# Altium schematic symbol library Libraries_2014_0618.SchLib: 81 symbols
Pins are listed as number, name and electrical type; pins without a type are passive.

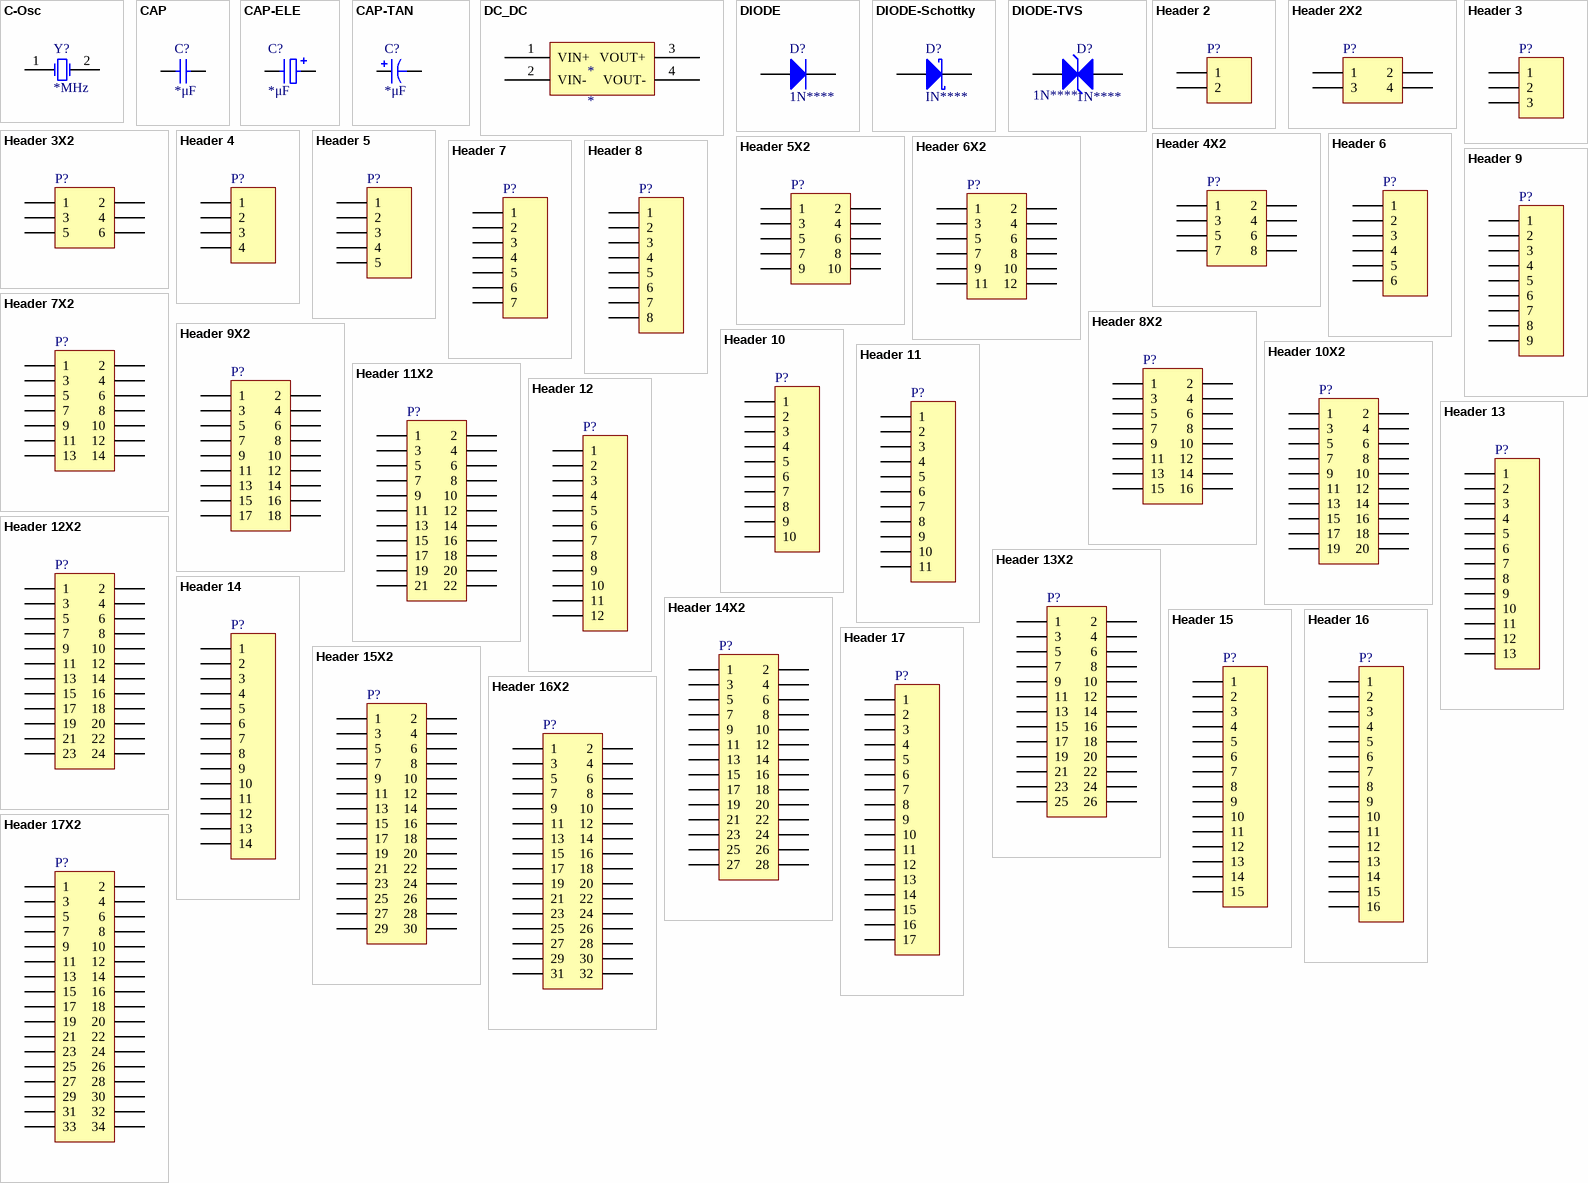
[diagram p0: symbols C-Osc to Header 17X2]

## C-Osc
designator Y?, comment *MHz
Crystal Oscillator; Published: 8-Jun-2000; LatestRevisionDate: 17-Jul-2002; LatestRevisionNote: Re-released for DXP Platform.; PackageReference: R38; Publisher: Altium Limited; PackageDescription: Crystal, Thru-Hole; 2 Leads; Body 3.1 x 8.2 mm (Dia.xH)
simulation model XTAL (Spice Subcircuit)
footprint UL94-V0 (Footprint not found)
pins: 1 OSC1, 2 OSC2

## CAP
designator C?, comment *μF
无极性电容; Published: 8-Jun-2000; LatestRevisionDate: 17-Jul-2002; LatestRevisionNote: Re-released for DXP Platform.; PackageReference: RAD-0.3; Publisher: Altium Limited; PackageDescription: Radial Cap, Thru-Hole; 2 Leads; 0.3 in Pin Spacing; Value: *μF
simulation model CAP (Capacitor)
signal-integrity model Cap
footprint CAP-MLCC-0603
footprint CAP-MLCC-0805
footprint CAP-MLCC-1206
pins: 1, 2

## CAP-ELE
designator C?, comment *μF
电解电容; Published: 8-Jun-2000; LatestRevisionDate: 17-Jul-2002; LatestRevisionNote: Re-released for DXP Platform.; PackageReference: RB7.6-15; Publisher: Altium Limited; PackageDescription: Polarized Capacitor (Radial); 2 Leads; Value: *μF
simulation model CAP (Capacitor)
signal-integrity model Cap Pol
pins: 1, 2
1 alternate drawing of the same symbol

## CAP-TAN
designator C?, comment *μF
钽电容; Published: 8-Jun-2000; LatestRevisionDate: 17-Jul-2002; LatestRevisionNote: Re-released for DXP Platform.; PackageReference: POLAR0.8; Publisher: Altium Limited; PackageDescription: Polarized Capacitor; 2 Leads; Value: *μF
simulation model CAP (Capacitor)
signal-integrity model Cap Pol
footprint CAP-TAN-3216/CAPA
footprint CAP-TAN-3528/CAPB
footprint CAP-TAN-6032/CAPC
pins: 1, 2
1 alternate drawing of the same symbol

## DC_DC
designator *
footprint DC_DC
pins: 1 VIN+, 2 VIN-, 3 VOUT+, 4 VOUT-

## DIODE
designator D?, comment 1N****
二极管; Published: 8-Jun-2000; LatestRevisionDate: 17-Jul-2002; LatestRevisionNote: Re-released for DXP Platform.; PackageVersion: Sep-1996; PackageReference: SMC; Publisher: Altium Limited; PackageDescription: DO-214-AB/SMC; 2 C-Bend Leads; Body 7.9 x 5.9 mm, inc. leads (LxW); Code_JEDEC: DO-214-AB; Value: 1N****
simulation model DIODE (Diode)
signal-integrity model Diode
pins: 1 A, 2 K

## DIODE-Schottky
designator D?, comment IN****
肖特基二极管; Value: 1N****; Published: 8-Jun-2000; LatestRevisionDate: 17-Jul-2002; LatestRevisionNote: Re-released for DXP Platform.; PackageReference: SMB; Publisher: Altium Limited; PackageDescription: DO-214-AA/SMB; 2 C-Bend Leads; Body 5.3 x 3.6 mm, inc. leads (LxW); Code_JEDEC: DO-214-AA
simulation model SKYDIODE (Diode)
signal-integrity model D Schottky
pins: 1 A, 2 K

## DIODE-TVS
designator D?, comment 1N****
双向稳压二极管; Published: 8-Jun-2000; LatestRevisionDate: 17-Jul-2002; LatestRevisionNote: Re-released for DXP Platform.; PackageReference: SMB; Publisher: Altium Limited; PackageDescription: DO-214-AA/SMB; 2 C-Bend Leads; Body 5.3 x 3.6 mm, inc. leads (LxW); Code_JEDEC: DO-214-AA; Value: 1N****
simulation model SKYDIODE (Diode)
signal-integrity model D Schottky
pins: 1 A, 2 K

## Header 2
designator P?  (value not drawn)
Header, 2-Pin; LatestRevisionDate: 17-Jul-2002; LatestRevisionNote: Re-released for DXP Platform.; Publisher: Altium Limited
signal-integrity model Connector
footprint SIP2
footprint PwrDock
pins: 1, 2

## Header 2X2
designator P?  (value not drawn)
Header, 2-Pin, Dual row; LatestRevisionDate: 17-Jul-2002; LatestRevisionNote: Re-released for DXP Platform.; Publisher: Altium Limited
signal-integrity model Connector
footprint HDR2X2 (Connector; Header; 2x2 Position)
footprint HDR2X2H (Connector; Header; 2x2 Position; Right Angle)
pins: 1, 2, 3, 4

## Header 3
designator P?  (value not drawn)
Header, 3-Pin; LatestRevisionDate: 17-Jul-2002; LatestRevisionNote: Re-released for DXP Platform.; Publisher: Altium Limited
signal-integrity model Connector
pins: 1, 2, 3

## Header 3X2
designator P?
Header, 3-Pin, Dual row; LatestRevisionDate: 17-Jul-2002; LatestRevisionNote: Re-released for DXP Platform.; Publisher: Altium Limited
signal-integrity model Connector
pins: 1, 2, 3, 4, 5, 6

## Header 4
designator P?
Header, 4-Pin; LatestRevisionDate: 17-Jul-2002; LatestRevisionNote: Re-released for DXP Platform.; Publisher: Altium Limited
signal-integrity model Connector
pins: 1, 2, 3, 4

## Header 4X2
designator P?
Header, 4-Pin, Dual row; LatestRevisionDate: 17-Jul-2002; LatestRevisionNote: Re-released for DXP Platform.; Publisher: Altium Limited
signal-integrity model Connector
pins: 1, 2, 3, 4, 5, 6, 7, 8

## Header 5
designator P?
Header, 5-Pin; LatestRevisionDate: 17-Jul-2002; LatestRevisionNote: Re-released for DXP Platform.; Publisher: Altium Limited
signal-integrity model Connector
pins: 1, 2, 3, 4, 5

## Header 5X2
designator P?
Header, 5-Pin, Dual row; LatestRevisionDate: 17-Jul-2002; LatestRevisionNote: Re-released for DXP Platform.; Publisher: Altium Limited
signal-integrity model Connector
pins: 1, 2, 3, 4, 5, 6, 7, 8, 9, 10

## Header 6
designator P?
Header, 6-Pin; LatestRevisionDate: 17-Jul-2002; LatestRevisionNote: Re-released for DXP Platform.; Publisher: Altium Limited
signal-integrity model Connector
pins: 1, 2, 3, 4, 5, 6

## Header 6X2
designator P?
Header, 6-Pin, Dual row; LatestRevisionDate: 17-Jul-2002; LatestRevisionNote: Re-released for DXP Platform.; Publisher: Altium Limited
signal-integrity model Connector
pins: 1, 2, 3, 4, 5, 6, 7, 8, 9, 10, 11, 12

## Header 7
designator P?
Header, 7-Pin; LatestRevisionDate: 17-Jul-2002; LatestRevisionNote: Re-released for DXP Platform.; Publisher: Altium Limited
signal-integrity model Connector
pins: 1, 2, 3, 4, 5, 6, 7

## Header 7X2
designator P?
Header, 7-Pin, Dual row; LatestRevisionDate: 17-Jul-2002; LatestRevisionNote: Re-released for DXP Platform.; Publisher: Altium Limited
signal-integrity model Connector
pins: 1, 2, 3, 4, 5, 6, 7, 8, 9, 10, 11, 12, 13, 14

## Header 8
designator P?
Header, 8-Pin; LatestRevisionDate: 17-Jul-2002; LatestRevisionNote: Re-released for DXP Platform.; Publisher: Altium Limited
signal-integrity model Connector
pins: 1, 2, 3, 4, 5, 6, 7, 8

## Header 8X2
designator P?
Header, 8-Pin, Dual row; LatestRevisionDate: 17-Jul-2002; LatestRevisionNote: Re-released for DXP Platform.; Publisher: Altium Limited
signal-integrity model Connector
pins: 1, 2, 3, 4, 5, 6, 7, 8, 9, 10, 11, 12, 13, 14, 15, 16

## Header 9
designator P?
Header, 9-Pin; LatestRevisionDate: 17-Jul-2002; LatestRevisionNote: Re-released for DXP Platform.; Publisher: Altium Limited
signal-integrity model Connector
pins: 1, 2, 3, 4, 5, 6, 7, 8, 9

## Header 9X2
designator P?
Header, 9-Pin, Dual row; LatestRevisionDate: 17-Jul-2002; LatestRevisionNote: Re-released for DXP Platform.; Publisher: Altium Limited
signal-integrity model Connector
pins: 1, 2, 3, 4, 5, 6, 7, 8, 9, 10, 11, 12, 13, 14, 15, 16, 17, 18

## Header 10
designator P?
Header, 10-Pin; LatestRevisionDate: 17-Jul-2002; LatestRevisionNote: Re-released for DXP Platform.; Publisher: Altium Limited
signal-integrity model Connector
pins: 1, 2, 3, 4, 5, 6, 7, 8, 9, 10

## Header 10X2
designator P?
Header, 10-Pin, Dual row; LatestRevisionDate: 17-Jul-2002; LatestRevisionNote: Re-released for DXP Platform.; Publisher: Altium Limited
signal-integrity model Connector
pins: 1, 2, 3, 4, 5, 6, 7, 8, 9, 10, 11, 12, 13, 14, 15, 16, 17, 18, 19, 20

## Header 11
designator P?
Header, 11-Pin; LatestRevisionDate: 17-Jul-2002; LatestRevisionNote: Re-released for DXP Platform.; Publisher: Altium Limited
signal-integrity model Connector
pins: 1, 2, 3, 4, 5, 6, 7, 8, 9, 10, 11

## Header 11X2
designator P?
Header, 11-Pin, Dual row; LatestRevisionDate: 17-Jul-2002; LatestRevisionNote: Re-released for DXP Platform.; Publisher: Altium Limited
signal-integrity model Connector
pins: 1, 2, 3, 4, 5, 6, 7, 8, 9, 10, 11, 12, 13, 14, 15, 16, 17, 18, 19, 20, 21, 22

## Header 12
designator P?
Header, 12-Pin; LatestRevisionDate: 17-Jul-2002; LatestRevisionNote: Re-released for DXP Platform.; Publisher: Altium Limited
signal-integrity model Connector
pins: 1, 2, 3, 4, 5, 6, 7, 8, 9, 10, 11, 12

## Header 12X2
designator P?
Header, 12-Pin, Dual row; LatestRevisionDate: 17-Jul-2002; LatestRevisionNote: Re-released for DXP Platform.; Publisher: Altium Limited
signal-integrity model Connector
pins: 1, 2, 3, 4, 5, 6, 7, 8, 9, 10, 11, 12, 13, 14, 15, 16, 17, 18, 19, 20, 21, 22, 23, 24

## Header 13
designator P?
Header, 13-Pin; LatestRevisionDate: 17-Jul-2002; LatestRevisionNote: Re-released for DXP Platform.; Publisher: Altium Limited
signal-integrity model Connector
pins: 1, 2, 3, 4, 5, 6, 7, 8, 9, 10, 11, 12, 13

## Header 13X2
designator P?
Header, 13-Pin, Dual row; LatestRevisionDate: 17-Jul-2002; LatestRevisionNote: Re-released for DXP Platform.; Publisher: Altium Limited
signal-integrity model Connector
pins: 1, 2, 3, 4, 5, 6, 7, 8, 9, 10, 11, 12, 13, 14, 15, 16, 17, 18, 19, 20, 21, 22, 23, 24, 25, 26

## Header 14
designator P?
Header, 14-Pin; LatestRevisionDate: 17-Jul-2002; LatestRevisionNote: Re-released for DXP Platform.; Publisher: Altium Limited
signal-integrity model Connector
pins: 1, 2, 3, 4, 5, 6, 7, 8, 9, 10, 11, 12, 13, 14

## Header 14X2
designator P?
Header, 14-Pin, Dual row; LatestRevisionDate: 17-Jul-2002; LatestRevisionNote: Re-released for DXP Platform.; Publisher: Altium Limited
signal-integrity model Connector
pins: 1, 2, 3, 4, 5, 6, 7, 8, 9, 10, 11, 12, 13, 14, 15, 16, 17, 18, 19, 20, 21, 22, 23, 24, 25, 26, 27, 28

## Header 15
designator P?
Header, 15-Pin; LatestRevisionDate: 17-Jul-2002; LatestRevisionNote: Re-released for DXP Platform.; Publisher: Altium Limited
signal-integrity model Connector
pins: 1, 2, 3, 4, 5, 6, 7, 8, 9, 10, 11, 12, 13, 14, 15

## Header 15X2
designator P?
Header, 15-Pin, Dual row; LatestRevisionDate: 17-Jul-2002; LatestRevisionNote: Re-released for DXP Platform.; Publisher: Altium Limited
signal-integrity model Connector
pins: 1, 2, 3, 4, 5, 6, 7, 8, 9, 10, 11, 12, 13, 14, 15, 16, 17, 18, 19, 20, 21, 22, 23, 24, 25, 26, 27, 28, 29, 30

## Header 16
designator P?
Header, 16-Pin; LatestRevisionDate: 17-Jul-2002; LatestRevisionNote: Re-released for DXP Platform.; Publisher: Altium Limited
signal-integrity model Connector
pins: 1, 2, 3, 4, 5, 6, 7, 8, 9, 10, 11, 12, 13, 14, 15, 16

## Header 16X2
designator P?
Header, 16-Pin, Dual row; LatestRevisionDate: 17-Jul-2002; LatestRevisionNote: Re-released for DXP Platform.; Publisher: Altium Limited
signal-integrity model Connector
pins: 1, 2, 3, 4, 5, 6, 7, 8, 9, 10, 11, 12, 13, 14, 15, 16, 17, 18, 19, 20, 21, 22, 23, 24, 25, 26, 27, 28, 29, 30, 31, 32

## Header 17
designator P?
Header, 17-Pin; LatestRevisionDate: 17-Jul-2002; LatestRevisionNote: Re-released for DXP Platform.; Publisher: Altium Limited
signal-integrity model Connector
pins: 1, 2, 3, 4, 5, 6, 7, 8, 9, 10, 11, 12, 13, 14, 15, 16, 17

## Header 17X2
designator P?
Header, 17-Pin, Dual row; LatestRevisionDate: 17-Jul-2002; LatestRevisionNote: Re-released for DXP Platform.; Publisher: Altium Limited
signal-integrity model Connector
pins: 1, 2, 3, 4, 5, 6, 7, 8, 9, 10, 11, 12, 13, 14, 15, 16, 17, 18, 19, 20, 21, 22, 23, 24, 25, 26, 27, 28, 29, 30, 31, 32, 33, 34

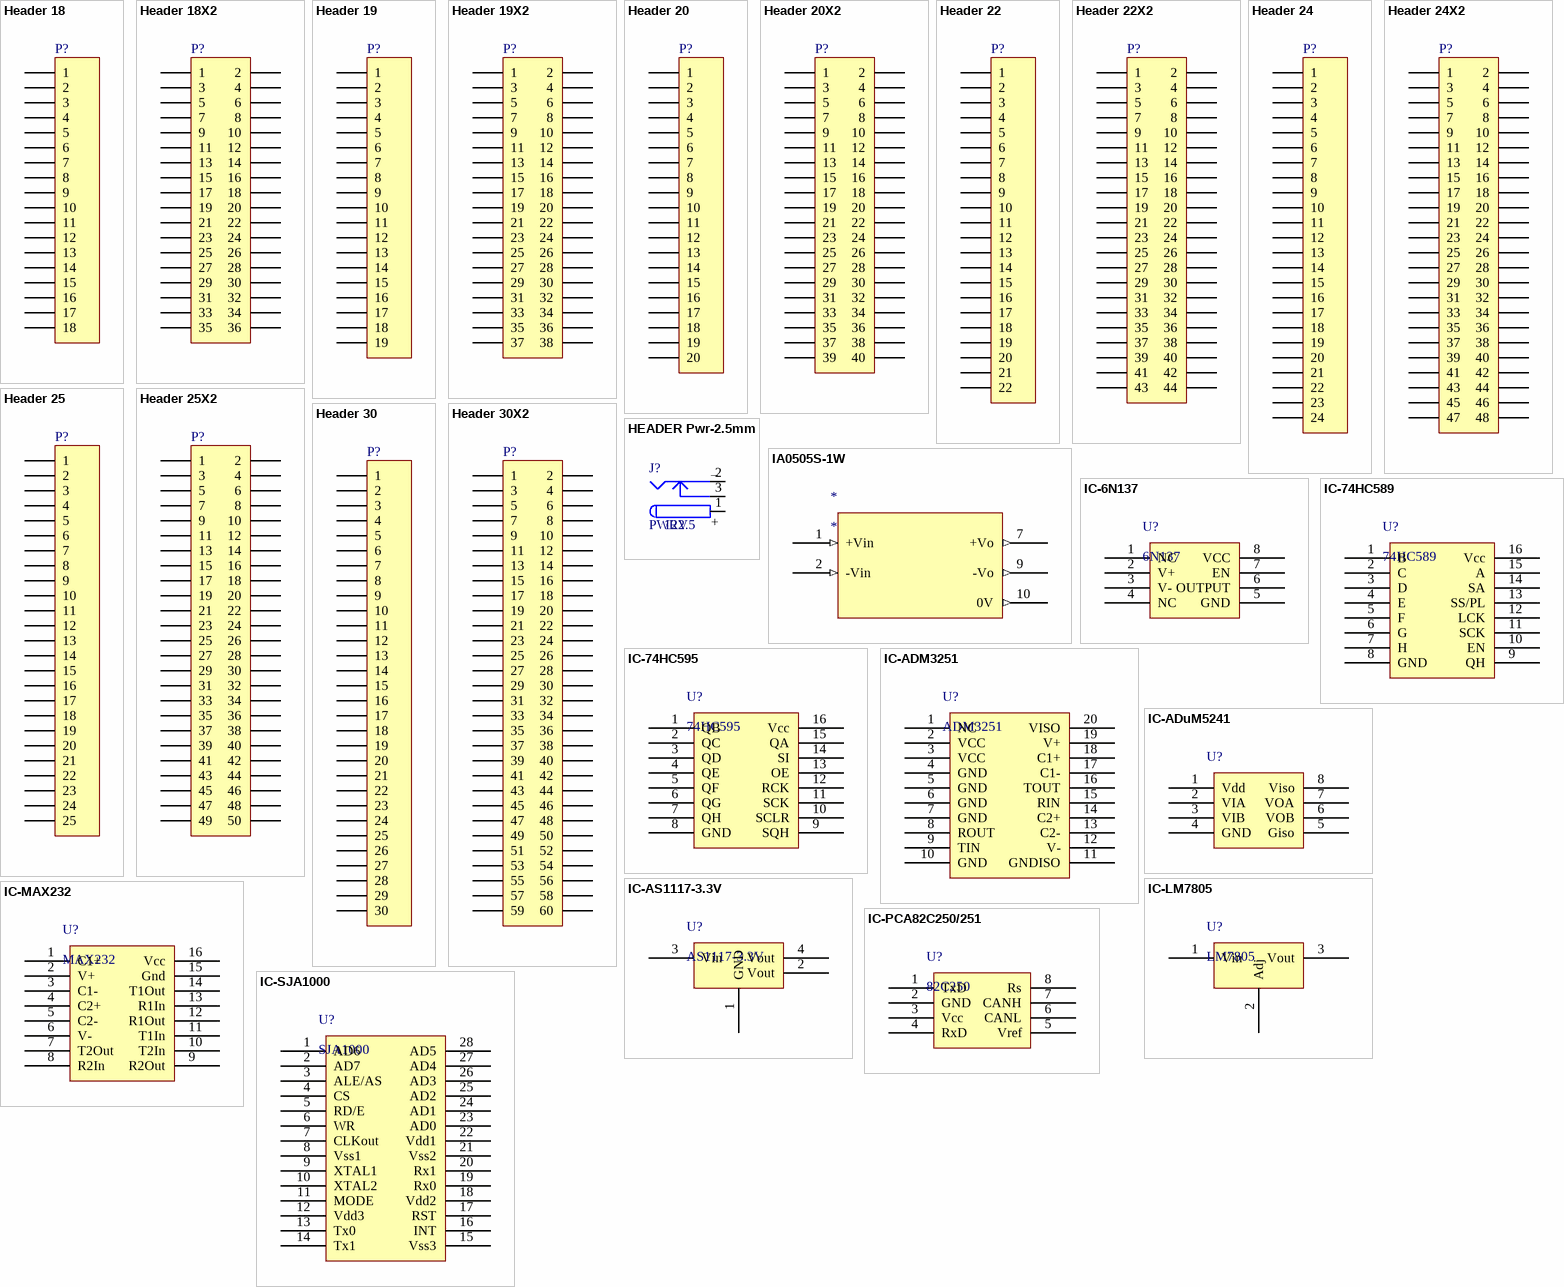
[diagram p1: symbols Header 18 to IC-SJA1000]

## Header 18
designator P?
Header, 18-Pin; LatestRevisionDate: 17-Jul-2002; LatestRevisionNote: Re-released for DXP Platform.; Publisher: Altium Limited
signal-integrity model Connector
pins: 1, 2, 3, 4, 5, 6, 7, 8, 9, 10, 11, 12, 13, 14, 15, 16, 17, 18

## Header 18X2
designator P?
Header, 18-Pin, Dual row; LatestRevisionDate: 17-Jul-2002; LatestRevisionNote: Re-released for DXP Platform.; Publisher: Altium Limited
signal-integrity model Connector
pins: 1, 2, 3, 4, 5, 6, 7, 8, 9, 10, 11, 12, 13, 14, 15, 16, 17, 18, 19, 20, 21, 22, 23, 24, 25, 26, 27, 28, 29, 30, 31, 32, 33, 34, 35, 36

## Header 19
designator P?
Header, 19-Pin; LatestRevisionDate: 17-Jul-2002; LatestRevisionNote: Re-released for DXP Platform.; Publisher: Altium Limited
signal-integrity model Connector
pins: 1, 2, 3, 4, 5, 6, 7, 8, 9, 10, 11, 12, 13, 14, 15, 16, 17, 18, 19

## Header 19X2
designator P?
Header, 19-Pin, Dual row; LatestRevisionDate: 17-Jul-2002; LatestRevisionNote: Re-released for DXP Platform.; Publisher: Altium Limited
signal-integrity model Connector
pins: 1, 2, 3, 4, 5, 6, 7, 8, 9, 10, 11, 12, 13, 14, 15, 16, 17, 18, 19, 20, 21, 22, 23, 24, 25, 26, 27, 28, 29, 30, 31, 32, 33, 34, 35, 36, 37, 38

## Header 20
designator P?
Header, 20-Pin; LatestRevisionDate: 17-Jul-2002; LatestRevisionNote: Re-released for DXP Platform.; Publisher: Altium Limited
signal-integrity model Connector
pins: 1, 2, 3, 4, 5, 6, 7, 8, 9, 10, 11, 12, 13, 14, 15, 16, 17, 18, 19, 20

## Header 20X2
designator P?
Header, 20-Pin, Dual row; LatestRevisionDate: 17-Jul-2002; LatestRevisionNote: Re-released for DXP Platform.; Publisher: Altium Limited
signal-integrity model Connector
pins: 1, 2, 3, 4, 5, 6, 7, 8, 9, 10, 11, 12, 13, 14, 15, 16, 17, 18, 19, 20, 21, 22, 23, 24, 25, 26, 27, 28, 29, 30, 31, 32, 33, 34, 35, 36, 37, 38, 39, 40

## Header 22
designator P?
Header, 22-Pin; LatestRevisionDate: 17-Jul-2002; LatestRevisionNote: Re-released for DXP Platform.; Publisher: Altium Limited
signal-integrity model Connector
pins: 1, 2, 3, 4, 5, 6, 7, 8, 9, 10, 11, 12, 13, 14, 15, 16, 17, 18, 19, 20, 21, 22

## Header 22X2
designator P?
Header, 22-Pin, Dual row; LatestRevisionDate: 17-Jul-2002; LatestRevisionNote: Re-released for DXP Platform.; Publisher: Altium Limited
signal-integrity model Connector
pins: 1, 2, 3, 4, 5, 6, 7, 8, 9, 10, 11, 12, 13, 14, 15, 16, 17, 18, 19, 20, 21, 22, 23, 24, 25, 26, 27, 28, 29, 30, 31, 32, 33, 34, 35, 36, 37, 38, 39, 40, 41, 42, 43, 44

## Header 24
designator P?
Header, 24-Pin; LatestRevisionDate: 17-Jul-2002; LatestRevisionNote: Re-released for DXP Platform.; Publisher: Altium Limited
signal-integrity model Connector
pins: 1, 2, 3, 4, 5, 6, 7, 8, 9, 10, 11, 12, 13, 14, 15, 16, 17, 18, 19, 20, 21, 22, 23, 24

## Header 24X2
designator P?
Header, 24-Pin, Dual row; LatestRevisionDate: 17-Jul-2002; LatestRevisionNote: Re-released for DXP Platform.; Publisher: Altium Limited
signal-integrity model Connector
pins: 1, 2, 3, 4, 5, 6, 7, 8, 9, 10, 11, 12, 13, 14, 15, 16, 17, 18, 19, 20, 21, 22, 23, 24, 25, 26, 27, 28, 29, 30, 31, 32, 33, 34, 35, 36, 37, 38, 39, 40, 41, 42, 43, 44, 45, 46, 47, 48

## Header 25
designator P?
Header, 25-Pin; LatestRevisionDate: 17-Jul-2002; LatestRevisionNote: Re-released for DXP Platform.; Publisher: Altium Limited
signal-integrity model Connector
pins: 1, 2, 3, 4, 5, 6, 7, 8, 9, 10, 11, 12, 13, 14, 15, 16, 17, 18, 19, 20, 21, 22, 23, 24, 25

## Header 25X2
designator P?
Header, 25-Pin, Dual row; LatestRevisionDate: 17-Jul-2002; LatestRevisionNote: Re-released for DXP Platform.; Publisher: Altium Limited
signal-integrity model Connector
pins: 1, 2, 3, 4, 5, 6, 7, 8, 9, 10, 11, 12, 13, 14, 15, 16, 17, 18, 19, 20, 21, 22, 23, 24, 25, 26, 27, 28, 29, 30, 31, 32, 33, 34, 35, 36, 37, 38, 39, 40, 41, 42, 43, 44, 45, 46, 47, 48, 49, 50

## Header 30
designator P?
Header, 30-Pin; LatestRevisionDate: 17-Jul-2002; LatestRevisionNote: Re-released for DXP Platform.; Publisher: Altium Limited
signal-integrity model Connector
pins: 1, 2, 3, 4, 5, 6, 7, 8, 9, 10, 11, 12, 13, 14, 15, 16, 17, 18, 19, 20, 21, 22, 23, 24, 25, 26, 27, 28, 29, 30

## Header 30X2
designator P?
Header, 30-Pin, Dual row; LatestRevisionDate: 17-Jul-2002; LatestRevisionNote: Re-released for DXP Platform.; Publisher: Altium Limited
signal-integrity model Connector
pins: 1, 2, 3, 4, 5, 6, 7, 8, 9, 10, 11, 12, 13, 14, 15, 16, 17, 18, 19, 20, 21, 22, 23, 24, 25, 26, 27, 28, 29, 30, 31, 32, 33, 34, 35, 36, 37, 38, 39, 40, 41, 42, 43, 44, 45, 46, 47, 48, 49, 50, 51, 52, 53, 54, 55, 56, 57, 58, 59, 60

## HEADER Pwr-2.5mm
designator J?, comment PWR2.5  Pwr: 12V
圆形电源接口; Name: J*; Published: 17-Dec-2003; DatasheetDocument: 09-May-2002; Publisher: Altium Limited; ComponentLink1Description: Manufacturer Link; ComponentLink1URL: http://domino.kycon.com/internet/Products.html
signal-integrity model Connector
footprint JACK-DCIN
pins: 1 (power), 1A (power), 1B (power), 2 (power), 2A (power), 2B (power), 3 (power), 3A (power), 3B (power)
text: _; +

## IA0505S-1W
designator *
footprint UL94-V0 (5V隔离电源模块)
pins: 1 +Vin (in), 2 -Vin (in), 7 +Vo (out) "输出正", 9 -Vo (out) "输出负", 10 0V (out) "输出地"

## IC-6N137
designator U?, comment 6N137
footprint SOP8
pins: 1 NC (power), 2 V+ (power), 3 V- (power), 4 NC (power), 5 GND (power), 6 OUTPUT (power), 7 EN (power), 8 VCC (power)

## IC-74HC589
designator U?, comment 74HC589
footprint SOIC16
footprint DIP16
pins: 1 B (power), 2 C (power), 3 D (power), 4 E (power), 5 F (power), 6 G (power), 7 H (power), 8 GND (power), 9 QH (power), 10 EN (power), 11 SCK (power), 12 LCK (power), 13 SS/PL (power), 14 SA (power), 15 A (power), 16 Vcc (power)

## IC-74HC595
designator U?, comment 74HC595
footprint SOIC16
footprint DIP16
pins: 1 QB (power), 2 QC (power), 3 QD (power), 4 QE (power), 5 QF (power), 6 QG (power), 7 QH (power), 8 GND (power), 9 SQH (power), 10 SCLR (power), 11 SCK (power), 12 RCK (power), 13 OE (power), 14 SI (power), 15 QA (power), 16 Vcc (power)

## IC-ADM3251
designator U?, comment ADM3251
footprint SOP20
pins: 1 NC (power), 2 VCC (power), 3 VCC (power), 4 GND (power), 5 GND (power), 6 GND (power), 7 GND (power), 8 ROUT (power), 9 TIN (power), 10 GND (power), 11 GNDISO (power), 12 V- (power), 13 C2- (power), 14 C2+ (power), 15 RIN (power), 16 TOUT (power), 17 C1- (power), 18 C1+ (power), 19 V+ (power), 20 VISO (power)

## IC-ADuM5241
designator U?
ADuM5241
footprint SOIC8
pins: 1 Vdd (power), 2 VIA (power), 3 VIB (power), 4 GND (power), 5 Giso (power), 6 VOB (power), 7 VOA (power), 8 Viso (power)

## IC-AS1117-3.3V
designator U?, comment AS1117-3.3V
footprint TO-252 (D2-PAK, 4-Pads, Body 9.4x10.3mm (max), IPC Medium Density)
pins: 1 GND (power), 2 Vout (power), 3 Vin (power), 4 Vout (power)

## IC-LM7805
designator U?, comment LM7805
footprint TO-220H-1
pins: 1 Vin (power), 2 Adj (power), 3 Vout (power)

## IC-MAX232
designator U?, comment MAX232
footprint SOIC16
footprint DIP16
pins: 1 C1+ (power), 2 V+ (power), 3 C1- (power), 4 C2+ (power), 5 C2- (power), 6 V- (power), 7 T2Out (power), 8 R2In (power), 9 R2Out (power), 10 T2In (power), 11 T1In (power), 12 R1Out (power), 13 R1In (power), 14 T1Out (power), 15 Gnd (power), 16 Vcc (power)

## IC-PCA82C250/251
designator U?, comment 82C250
PCA82C250/251
footprint SO8
pins: 1 TxD (power), 2 GND (power), 3 Vcc (power), 4 RxD (power), 5 Vref (power), 6 CANL (power), 7 CANH (power), 8 Rs (power)

## IC-SJA1000
designator U?, comment SJA1000
footprint SO28
pins: 1 AD6, 2 AD7, 3 ALE/AS (power), 4 CS (power), 5 RD/E (power), 6 WR (power), 7 CLKout (power), 8 Vss1 (power), 9 XTAL1 (power), 10 XTAL2 (power), 11 MODE (power), 12 Vdd3 (power), 13 Tx0 (power), 14 Tx1 (power), 15 Vss3 (power), 16 INT (power), 17 RST (power), 18 Vdd2 (power), 19 Rx0 (power), 20 Rx1 (power), 21 Vss2 (power), 22 Vdd1 (power), 23 AD0, 24 AD1, 25 AD2, 26 AD3, 27 AD4, 28 AD5

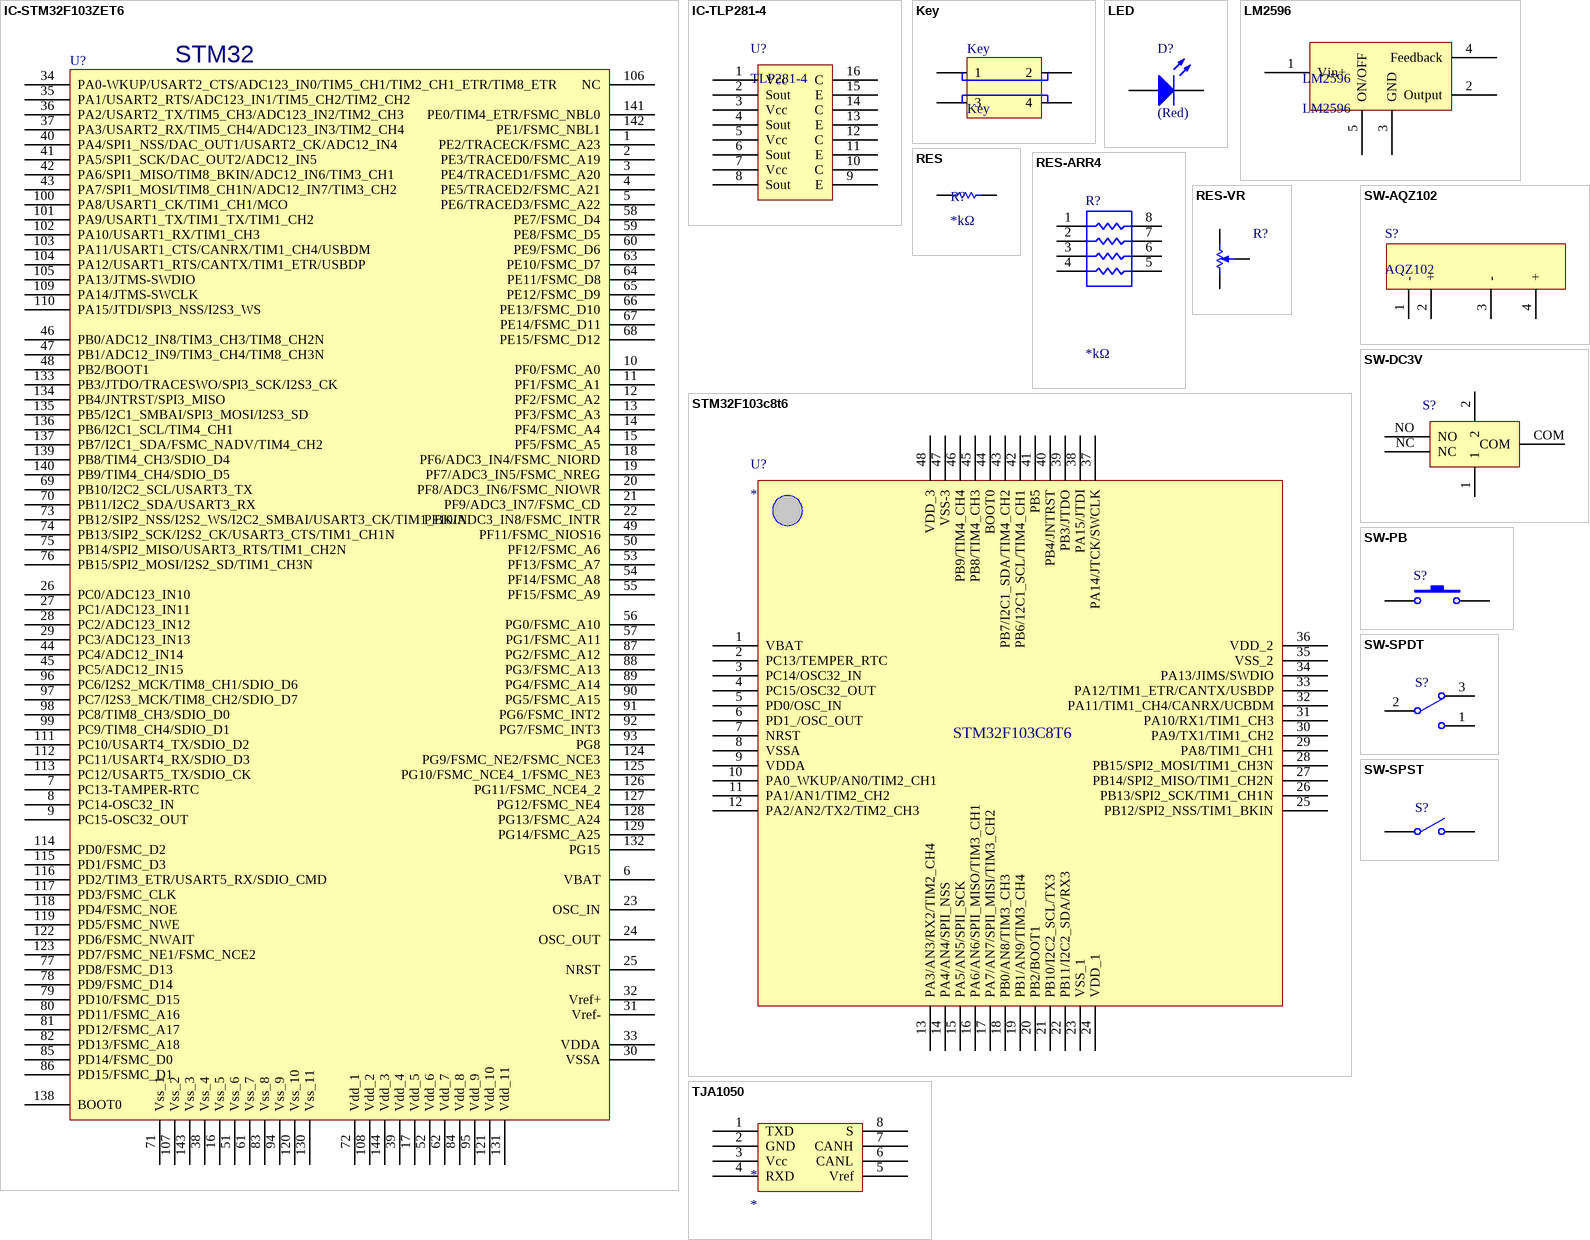
[diagram p2: symbols IC-STM32F103ZET6 to TJA1050]

## IC-STM32F103ZET6
designator U?, comment STM32
STM32F103ZET6
pins: 1 PE2/TRACECK/FSMC_A23, 2 PE3/TRACED0/FSMC_A19, 3 PE4/TRACED1/FSMC_A20, 4 PE5/TRACED2/FSMC_A21, 5 PE6/TRACED3/FSMC_A22, 6 VBAT, 7 PC13-TAMPER-RTC, 8 PC14-OSC32_IN, 9 PC15-OSC32_OUT, 10 PF0/FSMC_A0, 11 PF1/FSMC_A1, 12 PF2/FSMC_A2, 13 PF3/FSMC_A3, 14 PF4/FSMC_A4, 15 PF5/FSMC_A5, 16 Vss_5, 17 Vdd_5, 18 PF6/ADC3_IN4/FSMC_NIORD, 19 PF7/ADC3_IN5/FSMC_NREG, 20 PF8/ADC3_IN6/FSMC_NIOWR, 21 PF9/ADC3_IN7/FSMC_CD, 22 PF10/ADC3_IN8/FSMC_INTR, 23 OSC_IN, 24 OSC_OUT, 25 NRST, 26 PC0/ADC123_IN10, 27 PC1/ADC123_IN11, 28 PC2/ADC123_IN12, 29 PC3/ADC123_IN13, 30 VSSA, 31 Vref-, 32 Vref+, 33 VDDA, 34 PA0-WKUP/USART2_CTS/ADC123_IN0/TIM5_CH1/TIM2_CH1_ETR/TIM8_ETR, 35 PA1/USART2_RTS/ADC123_IN1/TIM5_CH2/TIM2_CH2, 36 PA2/USART2_TX/TIM5_CH3/ADC123_IN2/TIM2_CH3, 37 PA3/USART2_RX/TIM5_CH4/ADC123_IN3/TIM2_CH4, 38 Vss_4, 39 Vdd_4, 40 PA4/SPI1_NSS/DAC_OUT1/USART2_CK/ADC12_IN4, 41 PA5/SPI1_SCK/DAC_OUT2/ADC12_IN5, 42 PA6/SPI1_MISO/TIM8_BKIN/ADC12_IN6/TIM3_CH1, 43 PA7/SPI1_MOSI/TIM8_CH1N/ADC12_IN7/TIM3_CH2, 44 PC4/ADC12_IN14, 45 PC5/ADC12_IN15, 46 PB0/ADC12_IN8/TIM3_CH3/TIM8_CH2N, 47 PB1/ADC12_IN9/TIM3_CH4/TIM8_CH3N, 48 PB2/BOOT1, 49 PF11/FSMC_NIOS16, 50 PF12/FSMC_A6, 51 Vss_6, 52 Vdd_6, 53 PF13/FSMC_A7, 54 PF14/FSMC_A8, 55 PF15/FSMC_A9, 56 PG0/FSMC_A10, 57 PG1/FSMC_A11, 58 PE7/FSMC_D4, 59 PE8/FSMC_D5, 60 PE9/FSMC_D6, 61 Vss_7, 62 Vdd_7, 63 PE10/FSMC_D7, 64 PE11/FSMC_D8, 65 PE12/FSMC_D9, 66 PE13/FSMC_D10, 67 PE14/FSMC_D11, 68 PE15/FSMC_D12, 69 PB10/I2C2_SCL/USART3_TX, 70 PB11/I2C2_SDA/USART3_RX, 71 Vss_1, 72 Vdd_1, 73 PB12/SIP2_NSS/I2S2_WS/I2C2_SMBAI/USART3_CK/TIM1_BKIN, 74 PB13/SIP2_SCK/I2S2_CK/USART3_CTS/TIM1_CH1N, 75 PB14/SPI2_MISO/USART3_RTS/TIM1_CH2N, 76 PB15/SPI2_MOSI/I2S2_SD/TIM1_CH3N, 77 PD8/FSMC_D13, 78 PD9/FSMC_D14, 79 PD10/FSMC_D15, 80 PD11/FSMC_A16, 81 PD12/FSMC_A17, 82 PD13/FSMC_A18, 83 Vss_8, 84 Vdd_8, 85 PD14/FSMC_D0, 86 PD15/FSMC_D1, 87 PG2/FSMC_A12, 88 PG3/FSMC_A13, 89 PG4/FSMC_A14, 90 PG5/FSMC_A15, 91 PG6/FSMC_INT2, 92 PG7/FSMC_INT3, 93 PG8, 94 Vss_9, 95 Vdd_9, 96 PC6/I2S2_MCK/TIM8_CH1/SDIO_D6, 97 PC7/I2S3_MCK/TIM8_CH2/SDIO_D7, 98 PC8/TIM8_CH3/SDIO_D0, 99 PC9/TIM8_CH4/SDIO_D1, 100 PA8/USART1_CK/TIM1_CH1/MCO, 101 PA9/USART1_TX/TIM1_TX/TIM1_CH2, 102 PA10/USART1_RX/TIM1_CH3, 103 PA11/USART1_CTS/CANRX/TIM1_CH4/USBDM, 104 PA12/USART1_RTS/CANTX/TIM1_ETR/USBDP, 105 PA13/JTMS-SWDIO, 106 NC, 107 Vss_2, 108 Vdd_2, 109 PA14/JTMS-SWCLK, 110 PA15/JTDI/SPI3_NSS/I2S3_WS, 111 PC10/USART4_TX/SDIO_D2, 112 PC11/USART4_RX/SDIO_D3, 113 PC12/USART5_TX/SDIO_CK, 114 PD0/FSMC_D2, 115 PD1/FSMC_D3, 116 PD2/TIM3_ETR/USART5_RX/SDIO_CMD, 117 PD3/FSMC_CLK, 118 PD4/FSMC_NOE, 119 PD5/FSMC_NWE, 120 Vss_10, 121 Vdd_10, 122 PD6/FSMC_NWAIT, 123 PD7/FSMC_NE1/FSMC_NCE2, 124 PG9/FSMC_NE2/FSMC_NCE3, 125 PG10/FSMC_NCE4_1/FSMC_NE3, 126 PG11/FSMC_NCE4_2, 127 PG12/FSMC_NE4, 128 PG13/FSMC_A24, 129 PG14/FSMC_A25, 130 Vss_11, 131 Vdd_11, 132 PG15, 133 PB3/JTDO/TRACESWO/SPI3_SCK/I2S3_CK, 134 PB4/JNTRST/SPI3_MISO, 135 PB5/I2C1_SMBAI/SPI3_MOSI/I2S3_SD, 136 PB6/I2C1_SCL/TIM4_CH1, 137 PB7/I2C1_SDA/FSMC_NADV/TIM4_CH2, 138 BOOT0, 139 PB8/TIM4_CH3/SDIO_D4, 140 PB9/TIM4_CH4/SDIO_D5, 141 PE0/TIM4_ETR/FSMC_NBL0, 142 PE1/FSMC_NBL1, 143 Vss_3, 144 Vdd_3

## IC-TLP281-4
designator U?, comment TLP281-4
footprint SOIC16
pins: 1 Vcc (power), 2 Sout (power), 3 Vcc (power), 4 Sout (power), 5 Vcc (power), 6 Sout (power), 7 Vcc (power), 8 Sout (power), 9 E (power), 10 C (power), 11 E (power), 12 C (power), 13 E (power), 14 C (power), 15 E (power), 16 C (power)

## Key
designator Key
蓝色按钮; LatestRevisionDate: 17-Jul-2002; LatestRevisionNote: Re-released for DXP Platform.; Publisher: Altium Limited
footprint Key_Blue
pins: 1, 2, 3, 4

## LED
designator D?, comment (Red)
LED; Published: 8-Jun-2000; LatestRevisionDate: 08-Jul-2005; LatestRevisionNote: Mech Layer 1 removed.; PackageReference: LED-1; Publisher: Altium Limited; PackageDescription: LED; 2 Leads; Value: (Red)
simulation model LED1 (Diode)
footprint LED-1206
footprint LED-0805
pins: 1 A, 2 K

## LM2596
designator LM2596
12-5
footprint TO-263-5
pins: 1 Vin+, 2 Output, 3 GND, 4 Feedback, 5 ON/OFF

## RES
designator R?, comment *kΩ
电阻; Published: 8-Jun-2000; LatestRevisionDate: 17-Jul-2002; LatestRevisionNote: Re-released for DXP Platform.; PackageReference: AXIAL-0.3; Publisher: Altium Limited; PackageDescription: Axial Device, Thru-Hole; 2 Leads; 0.3 in Pin Spacing; Value: *kΩ
simulation model RESISTOR (Resistor)
signal-integrity model Res
footprint RES-0603
footprint RES-0805
pins: 1, 2

## RES-ARR4
designator R?, comment *kΩ
四位排阻; Published: 24-Mar-1999; LatestRevisionDate: 29-May-2009; LatestRevisionNote: IPC-7351 Footprint Added.; PackageReference: SO-16; Publisher: Altium Limited; PackageDescription: 16-Pin Small Outline Integrated Circuit 1.27 mm Pitch; Code_JEDEC: MS-012-AC; Code_IPC: SOIC127P600-16; Value: *kΩ
footprint SO-16_L (SOIC, 16-Leads, Body 9.9x3.9mm, Pitch 1.27mm, IPC High Density)
footprint SO-16_M (SOIC, 16-Leads, Body 9.9x3.9mm, Pitch 1.27mm, IPC Low Density)
simulation model respack_8 (Spice Subcircuit)
pins: 1, 2, 3, 4, 5, 6, 7, 8

## RES-VR
designator R?, comment *kΩ  (value not drawn)
可变电阻; Published: 17-Dec-2003; DatasheetVersion: Oct-2003; PackageReference: POT4MM-2; Publisher: Altium Limited; PackageDescription: Square Trimming Potentiometer; ComponentLink1Description: Manufacturer Link; ComponentLink1URL: http://bourns.com/2/search.html; Value: *kΩ
footprint POT4MM-2 (Square Trimming Potentiometer)
pins: CCW -, CW +, W
1 alternate drawing of the same symbol

## STM32F103c8t6
designator U?
MCU
footprint LQFP48
pins: 1 VBAT, 2 PC13/TEMPER_RTC, 3 PC14/OSC32_IN, 4 PC15/OSC32_OUT, 5 PD0/OSC_IN, 6 PD1_/OSC_OUT, 7 NRST, 8 VSSA, 9 VDDA, 10 PA0_WKUP/AN0/TIM2_CH1, 11 PA1/AN1/TIM2_CH2, 12 PA2/AN2/TX2/TIM2_CH3, 13 PA3/AN3/RX2/TIM2_CH4, 14 PA4/AN4/SPII_NSS, 15 PA5/AN5/SPII_SCK, 16 PA6/AN6/SPII_MISO/TIM3_CH1, 17 PA7/AN7/SPII_MISI/TIM3_CH2, 18 PB0/AN8/TIM3_CH3, 19 PB1/AN9/TIM3_CH4, 20 PB2/BOOT1, 21 PB10/I2C2_SCL/TX3, 22 PB11/I2C2_SDA/RX3, 23 VSS_1, 24 VDD_1, 25 PB12/SPI2_NSS/TIM1_BKIN, 26 PB13/SPI2_SCK/TIM1_CH1N, 27 PB14/SPI2_MISO/TIM1_CH2N, 28 PB15/SPI2_MOSI/TIM1_CH3N, 29 PA8/TIM1_CH1, 30 PA9/TX1/TIM1_CH2, 31 PA10/RX1/TIM1_CH3, 32 PA11/TIM1_CH4/CANRX/UCBDM, 33 PA12/TIM1_ETR/CANTX/USBDP, 34 PA13/JIMS/SWDIO, 35 VSS_2, 36 VDD_2, 37 PA14/JTCK/SWCLK, 38 PA15/JTDI, 39 PB3/JTDO, 40 PB4/JNTRST, 41 PB5, 42 PB6/12C1_SCL/TIM4_CH1, 43 PB7/I2C1_SDA/TIM4_CH2, 44 BOOT0, 45 PB8/TIM4_CH3, 46 PB9/TIM4_CH4, 47 VSS-3, 48 VDD_3
text: STM32F103C8T6

## SW-AQZ102
designator S?, comment AQZ102
继电器-AQZ102; Published: 24-Mar-1999; LatestRevisionDate: 17-Jul-2002; LatestRevisionNote: Re-released for DXP Platform.; PackageReference: SPST-2; Publisher: Altium Limited; PackageDescription: Switch; 2 Leads
footprint AQZ102
pins: 1 -, 2 +, 3 -, 4 +

## SW-DC3V
designator S?
继电器-3V
footprint RELAY-SPDT-T74 (RELAY-1SW2-S3-3)
pins: 1, 2, COM (power), NC (power), NO (power)

## SW-PB
designator S?  (value not drawn)
按钮; Published: 24-Mar-1999; LatestRevisionDate: 17-Jul-2002; LatestRevisionNote: Re-released for DXP Platform.; PackageReference: SPST-2; Publisher: Altium Limited; PackageDescription: Switch; 2 Leads
footprint SPST-2 (Switch; 2 Leads)
pins: 1, 2

## SW-SPDT
designator S?  (value not drawn)
单刀双掷开关; Published: 24-Mar-1999; LatestRevisionDate: 17-Dec-2003; LatestRevisionNote: Schematic revised, PCB Footprint replaced.; DatasheetVersion: 05-Dec-2000; PackageReference: TL36WW15050; Publisher: Altium Limited; PackageDescription: Switch; 4 Leads; ComponentLink1Description: Manufacturer Link; ComponentLink1URL: http://www.apem.com
footprint TL36WW15050 (Switch; 4 Leads)
pins: 1, 2, 3

## SW-SPST
designator S?  (value not drawn)
单刀单掷开关; Published: 24-Mar-1999; LatestRevisionDate: 17-Jul-2002; LatestRevisionNote: Re-released for DXP Platform.; PackageReference: SPST-2; Publisher: Altium Limited; PackageDescription: Switch; 2 Leads
footprint SPST-2 (Switch; 2 Leads)
pins: 1 COMMON, 2 NO

## TJA1050
designator *
CAN总线收发器
footprint TJA1050 (SOIC, 8-Leads, Body 4.90x3.90mm, Pitch 1.27mm, IPC Medium Density)
pins: 1 TXD, 2 GND, 3 Vcc, 4 RXD, 5 Vref, 6 CANL, 7 CANH, 8 S